# Altium integrated library National Semiconductor Interface.IntLib: 1433 symbols (part 28 of 51)
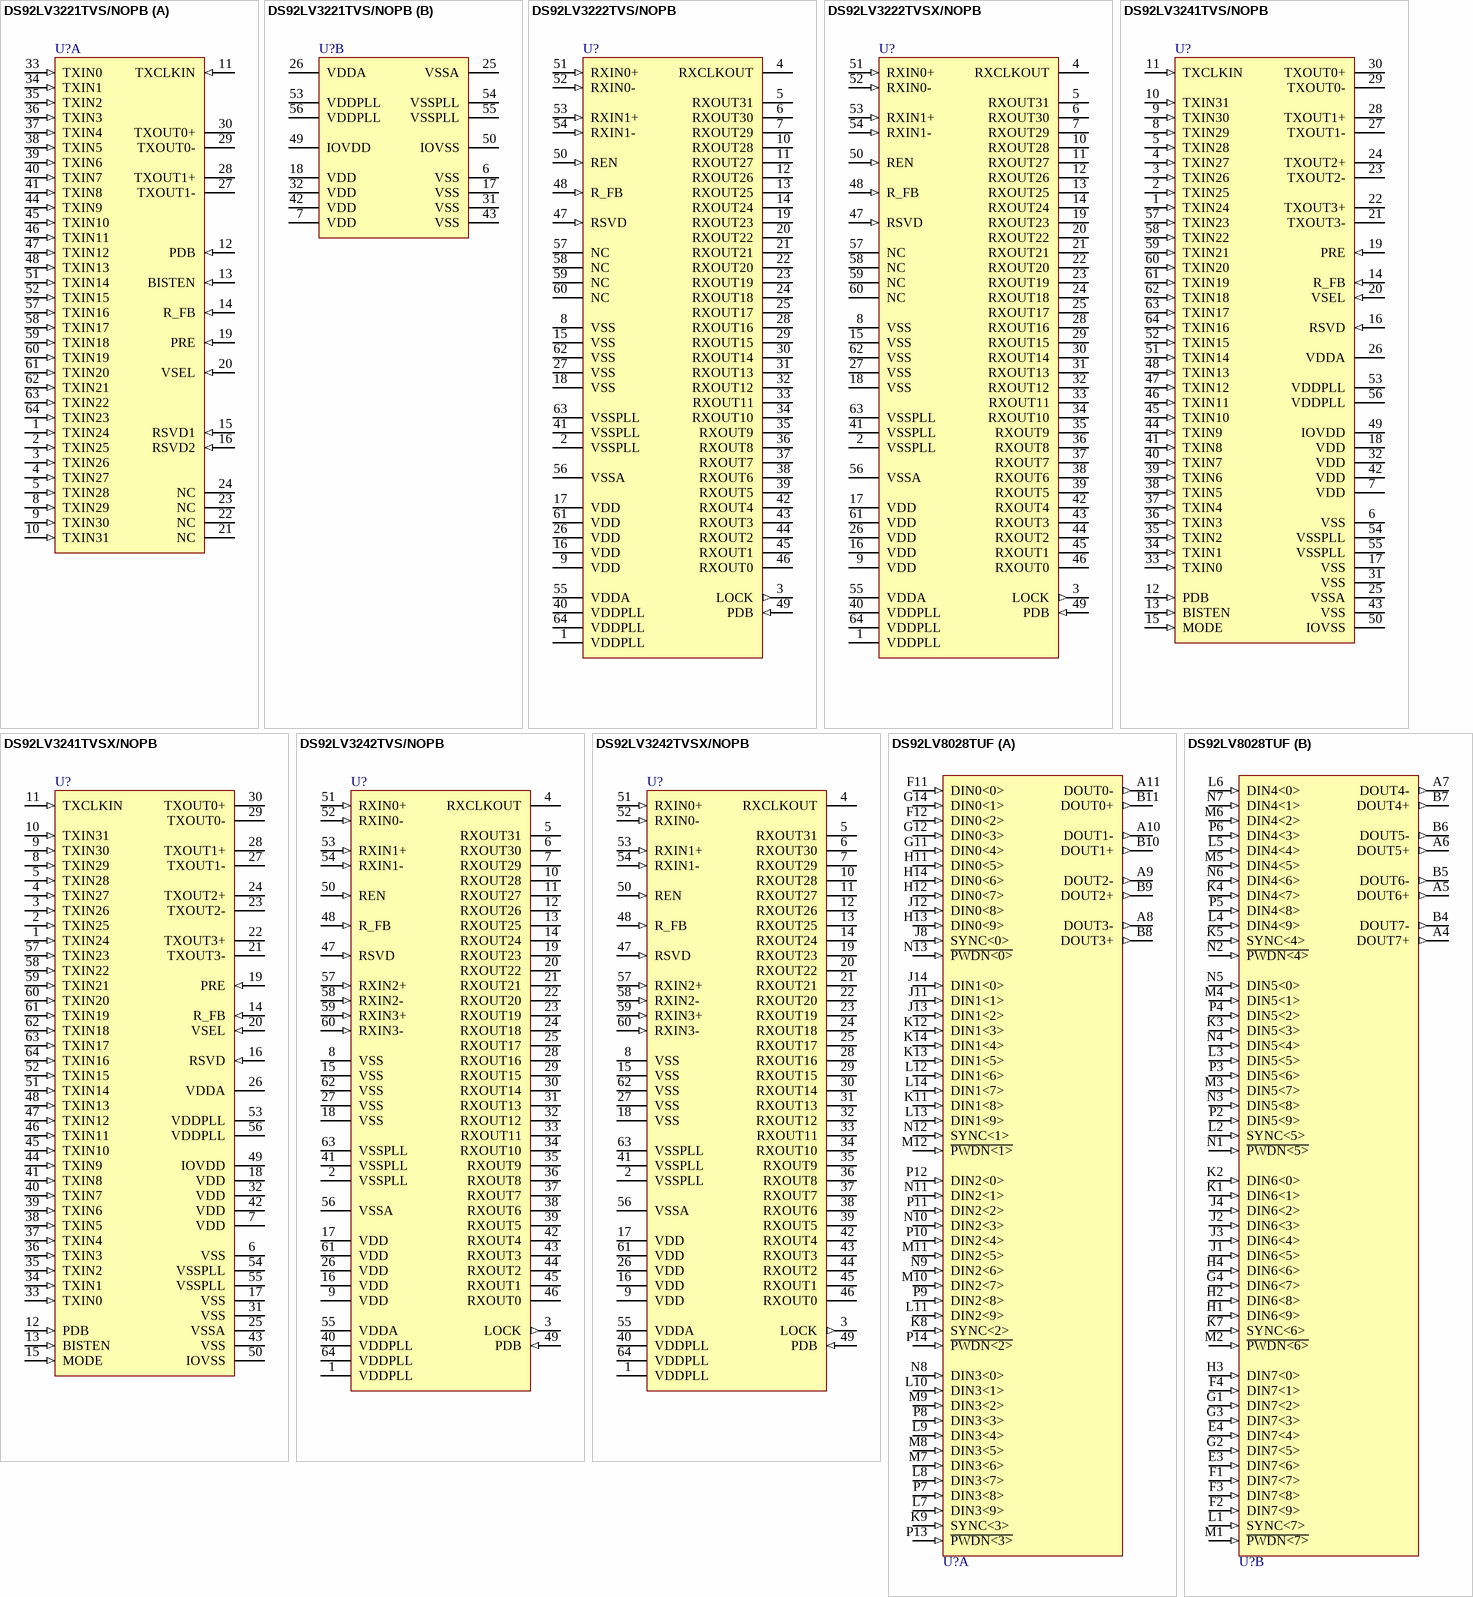
[diagram p151: symbols DS92LV3221TVS/NOPB to DS92LV8028TUF]

## DS92LV3222TVS/NOPB
designator U?
20-50 MHz 32-Bit Channel Link II Deserializer, 64-pin TQFP, Pb-Free; PartNumber: DS92LV3222TVS/NOPB; Manufacturer: National Semiconductor; PackageTopMarking: NSUZXYYTTE#*DS92LV3222*TVS; PowerWise: N; CompType: Interface IC; High-Reliability: Y; DatasheetVersion: Jan-2010; PackageVersion: revB, Jul-2003; PackageReference: VEC64A; PackageDescription: TQFP, Jedec Metric, 10 x 10 x 1.0mm, 64 Lead, 0.5mm Pitch; RoHS: Y; PinCount: 64; Code_JEDEC: MS-026-ACD; ComponentLink1Description: Manufacturer URL; ComponentLink1URL: http://www.national.com/; ComponentLink2Description: DS92LV3222 Datasheet; ComponentLink2URL: http://www.national.com/ds/DS/DS92LV3222.pdf; ComponentLink3Description: DS92LV3222 Web Page; ComponentLink3URL: http://www.national.com/pf/DS/DS92LV3222.html; ComponentLink4Description: VEC64A Package Page; ComponentLink4URL: http://www.national.com/packaging/folders/vec64a.html
footprint VEC64A_N (Thin QFP, 64-Leads, Body 10x10mm, Pitch 0.5mm, IPC Medium Density)
footprint VEC64A_L (Thin QFP, 64-Leads, Body 10x10mm, Pitch 0.5mm, IPC High Density)
footprint VEC64A_M (Thin QFP, 64-Leads, Body 10x10mm, Pitch 0.5mm, IPC Low Density)
pins: 1 VDDPLL (power), 2 VSSPLL (power), 3 LOCK (out), 4 RXCLKOUT (hiz), 5 RXOUT31 (hiz), 6 RXOUT30 (hiz), 7 RXOUT29 (hiz), 8 VSS (power), 9 VDD (power), 10 RXOUT28 (hiz), 11 RXOUT27 (hiz), 12 RXOUT26 (hiz), 13 RXOUT25 (hiz), 14 RXOUT24 (hiz), 15 VSS (power), 16 VDD (power), 17 VDD (power), 18 VSS (power), 19 RXOUT23 (hiz), 20 RXOUT22 (hiz), 21 RXOUT21 (hiz), 22 RXOUT20 (hiz), 23 RXOUT19 (hiz), 24 RXOUT18 (hiz), 25 RXOUT17 (hiz), 26 VDD (power), 27 VSS (power), 28 RXOUT16 (hiz), 29 RXOUT15 (hiz), 30 RXOUT14 (hiz), 31 RXOUT13 (hiz), 32 RXOUT12 (hiz), 33 RXOUT11 (hiz), 34 RXOUT10 (hiz), 35 RXOUT9 (hiz), 36 RXOUT8 (hiz), 37 RXOUT7 (hiz), 38 RXOUT6 (hiz), 39 RXOUT5 (hiz), 40 VDDPLL (power), 41 VSSPLL (power), 42 RXOUT4 (hiz), 43 RXOUT3 (hiz), 44 RXOUT2 (hiz), 45 RXOUT1 (hiz), 46 RXOUT0 (hiz), 47 RSVD (in), 48 R_FB (in), 49 PDB (in), 50 REN (in), 51 RXIN0+ (in), 52 RXIN0- (in), 53 RXIN1+ (in), 54 RXIN1- (in), 55 VDDA (power), 56 VSSA (power), 57 NC, 58 NC, 59 NC, 60 NC, 61 VDD (power), 62 VSS (power), 63 VSSPLL (power), 64 VDDPLL (power)

## DS92LV3222TVSX/NOPB
designator U?
20-50 MHz 32-Bit Channel Link II Deserializer, 64-pin TQFP, Pb-Free; PartNumber: DS92LV3222TVSX/NOPB; Manufacturer: National Semiconductor; PackageTopMarking: NSUZXYYTTE#*DS92LV3222*TVS; PowerWise: N; CompType: Interface IC; High-Reliability: Y; DatasheetVersion: Jan-2010; PackageVersion: revB, Jul-2003; PackageReference: VEC64A; PackageDescription: TQFP, Jedec Metric, 10 x 10 x 1.0mm, 64 Lead, 0.5mm Pitch; RoHS: Y; PinCount: 64; Code_JEDEC: MS-026-ACD; ComponentLink1Description: Manufacturer URL; ComponentLink1URL: http://www.national.com/; ComponentLink2Description: DS92LV3222 Datasheet; ComponentLink2URL: http://www.national.com/ds/DS/DS92LV3222.pdf; ComponentLink3Description: DS92LV3222 Web Page; ComponentLink3URL: http://www.national.com/pf/DS/DS92LV3222.html; ComponentLink4Description: VEC64A Package Page; ComponentLink4URL: http://www.national.com/packaging/folders/vec64a.html
footprint VEC64A_N (Thin QFP, 64-Leads, Body 10x10mm, Pitch 0.5mm, IPC Medium Density)
footprint VEC64A_L (Thin QFP, 64-Leads, Body 10x10mm, Pitch 0.5mm, IPC High Density)
footprint VEC64A_M (Thin QFP, 64-Leads, Body 10x10mm, Pitch 0.5mm, IPC Low Density)
pins: 1 VDDPLL (power), 2 VSSPLL (power), 3 LOCK (out), 4 RXCLKOUT (hiz), 5 RXOUT31 (hiz), 6 RXOUT30 (hiz), 7 RXOUT29 (hiz), 8 VSS (power), 9 VDD (power), 10 RXOUT28 (hiz), 11 RXOUT27 (hiz), 12 RXOUT26 (hiz), 13 RXOUT25 (hiz), 14 RXOUT24 (hiz), 15 VSS (power), 16 VDD (power), 17 VDD (power), 18 VSS (power), 19 RXOUT23 (hiz), 20 RXOUT22 (hiz), 21 RXOUT21 (hiz), 22 RXOUT20 (hiz), 23 RXOUT19 (hiz), 24 RXOUT18 (hiz), 25 RXOUT17 (hiz), 26 VDD (power), 27 VSS (power), 28 RXOUT16 (hiz), 29 RXOUT15 (hiz), 30 RXOUT14 (hiz), 31 RXOUT13 (hiz), 32 RXOUT12 (hiz), 33 RXOUT11 (hiz), 34 RXOUT10 (hiz), 35 RXOUT9 (hiz), 36 RXOUT8 (hiz), 37 RXOUT7 (hiz), 38 RXOUT6 (hiz), 39 RXOUT5 (hiz), 40 VDDPLL (power), 41 VSSPLL (power), 42 RXOUT4 (hiz), 43 RXOUT3 (hiz), 44 RXOUT2 (hiz), 45 RXOUT1 (hiz), 46 RXOUT0 (hiz), 47 RSVD (in), 48 R_FB (in), 49 PDB (in), 50 REN (in), 51 RXIN0+ (in), 52 RXIN0- (in), 53 RXIN1+ (in), 54 RXIN1- (in), 55 VDDA (power), 56 VSSA (power), 57 NC, 58 NC, 59 NC, 60 NC, 61 VDD (power), 62 VSS (power), 63 VSSPLL (power), 64 VDDPLL (power)

## DS92LV3241TVS/NOPB
designator U?
20-85 MHz 32-Bit Channel Link II Serializer, 64-pin TQFP, Pb-Free; PartNumber: DS92LV3241TVS/NOPB; Manufacturer: National Semiconductor; PackageTopMarking: NSUZXYYTTE#*DS92LV3241*TVS; PowerWise: N; CompType: Interface IC; High-Reliability: Y; DatasheetVersion: Sep-2009; PackageVersion: revB, Jul-2003; PackageReference: VEC64A; PackageDescription: TQFP, Jedec Metric, 10 x 10 x 1.0mm, 64 Lead, 0.5mm Pitch; RoHS: Y; PinCount: 64; Code_JEDEC: MS-026-ACD; ComponentLink1Description: Manufacturer URL; ComponentLink1URL: http://www.national.com/; ComponentLink2Description: DS92LV3241 Datasheet; ComponentLink2URL: http://www.national.com/ds/DS/DS92LV3241.pdf; ComponentLink3Description: DS92LV3241 Web Page; ComponentLink3URL: http://www.national.com/pf/DS/DS92LV3241.html; ComponentLink4Description: VEC64A Package Page; ComponentLink4URL: http://www.national.com/packaging/folders/vec64a.html
footprint VEC64A_N (Thin QFP, 64-Leads, Body 10x10mm, Pitch 0.5mm, IPC Medium Density)
footprint VEC64A_L (Thin QFP, 64-Leads, Body 10x10mm, Pitch 0.5mm, IPC High Density)
footprint VEC64A_M (Thin QFP, 64-Leads, Body 10x10mm, Pitch 0.5mm, IPC Low Density)
pins: 1 TXIN24 (in), 2 TXIN25 (in), 3 TXIN26 (in), 4 TXIN27 (in), 5 TXIN28 (in), 6 VSS (power), 7 VDD (power), 8 TXIN29 (in), 9 TXIN30 (in), 10 TXIN31 (in), 11 TXCLKIN (in), 12 PDB (in), 13 BISTEN (in), 14 R_FB (in), 15 MODE (in), 16 RSVD (in), 17 VSS (power), 18 VDD (power), 19 PRE (in), 20 VSEL (in), 21 TXOUT3- (hiz), 22 TXOUT3+ (hiz), 23 TXOUT2- (hiz), 24 TXOUT2+ (hiz), 25 VSSA (power), 26 VDDA (power), 27 TXOUT1- (hiz), 28 TXOUT1+ (hiz), 29 TXOUT0- (hiz), 30 TXOUT0+ (hiz), 31 VSS (power), 32 VDD (power), 33 TXIN0 (in), 34 TXIN1 (in), 35 TXIN2 (in), 36 TXIN3 (in), 37 TXIN4 (in), 38 TXIN5 (in), 39 TXIN6 (in), 40 TXIN7 (in), 41 TXIN8 (in), 42 VDD (power), 43 VSS (power), 44 TXIN9 (in), 45 TXIN10 (in), 46 TXIN11 (in), 47 TXIN12 (in), 48 TXIN13 (in), 49 IOVDD (power), 50 IOVSS (power), 51 TXIN14 (in), 52 TXIN15 (in), 53 VDDPLL (power), 54 VSSPLL (power), 55 VSSPLL (power), 56 VDDPLL (power), 57 TXIN23 (in), 58 TXIN22 (in), 59 TXIN21 (in), 60 TXIN20 (in), 61 TXIN19 (in), 62 TXIN18 (in), 63 TXIN17 (in), 64 TXIN16 (in)

## DS92LV3241TVSX/NOPB
designator U?
20-85 MHz 32-Bit Channel Link II Serializer, 64-pin TQFP, Pb-Free; PartNumber: DS92LV3241TVSX/NOPB; Manufacturer: National Semiconductor; PackageTopMarking: NSUZXYYTTE#*DS92LV3241*TVS; PowerWise: N; CompType: Interface IC; High-Reliability: Y; DatasheetVersion: Sep-2009; PackageVersion: revB, Jul-2003; PackageReference: VEC64A; PackageDescription: TQFP, Jedec Metric, 10 x 10 x 1.0mm, 64 Lead, 0.5mm Pitch; RoHS: Y; PinCount: 64; Code_JEDEC: MS-026-ACD; ComponentLink1Description: Manufacturer URL; ComponentLink1URL: http://www.national.com/; ComponentLink2Description: DS92LV3241 Datasheet; ComponentLink2URL: http://www.national.com/ds/DS/DS92LV3241.pdf; ComponentLink3Description: DS92LV3241 Web Page; ComponentLink3URL: http://www.national.com/pf/DS/DS92LV3241.html; ComponentLink4Description: VEC64A Package Page; ComponentLink4URL: http://www.national.com/packaging/folders/vec64a.html
footprint VEC64A_N (Thin QFP, 64-Leads, Body 10x10mm, Pitch 0.5mm, IPC Medium Density)
footprint VEC64A_L (Thin QFP, 64-Leads, Body 10x10mm, Pitch 0.5mm, IPC High Density)
footprint VEC64A_M (Thin QFP, 64-Leads, Body 10x10mm, Pitch 0.5mm, IPC Low Density)
pins: 1 TXIN24 (in), 2 TXIN25 (in), 3 TXIN26 (in), 4 TXIN27 (in), 5 TXIN28 (in), 6 VSS (power), 7 VDD (power), 8 TXIN29 (in), 9 TXIN30 (in), 10 TXIN31 (in), 11 TXCLKIN (in), 12 PDB (in), 13 BISTEN (in), 14 R_FB (in), 15 MODE (in), 16 RSVD (in), 17 VSS (power), 18 VDD (power), 19 PRE (in), 20 VSEL (in), 21 TXOUT3- (hiz), 22 TXOUT3+ (hiz), 23 TXOUT2- (hiz), 24 TXOUT2+ (hiz), 25 VSSA (power), 26 VDDA (power), 27 TXOUT1- (hiz), 28 TXOUT1+ (hiz), 29 TXOUT0- (hiz), 30 TXOUT0+ (hiz), 31 VSS (power), 32 VDD (power), 33 TXIN0 (in), 34 TXIN1 (in), 35 TXIN2 (in), 36 TXIN3 (in), 37 TXIN4 (in), 38 TXIN5 (in), 39 TXIN6 (in), 40 TXIN7 (in), 41 TXIN8 (in), 42 VDD (power), 43 VSS (power), 44 TXIN9 (in), 45 TXIN10 (in), 46 TXIN11 (in), 47 TXIN12 (in), 48 TXIN13 (in), 49 IOVDD (power), 50 IOVSS (power), 51 TXIN14 (in), 52 TXIN15 (in), 53 VDDPLL (power), 54 VSSPLL (power), 55 VSSPLL (power), 56 VDDPLL (power), 57 TXIN23 (in), 58 TXIN22 (in), 59 TXIN21 (in), 60 TXIN20 (in), 61 TXIN19 (in), 62 TXIN18 (in), 63 TXIN17 (in), 64 TXIN16 (in)

## DS92LV3242TVS/NOPB
designator U?
20-85 MHz 32-Bit Channel Link II Deserializer, 64-pin TQFP, Pb-Free; PartNumber: DS92LV3242TVS/NOPB; Manufacturer: National Semiconductor; PackageTopMarking: NSUZXYYTTE#*DS92LV3242*TVS; PowerWise: N; CompType: Interface IC; High-Reliability: Y; DatasheetVersion: Sep-2009; PackageVersion: revB, Jul-2003; PackageReference: VEC64A; PackageDescription: TQFP, Jedec Metric, 10 x 10 x 1.0mm, 64 Lead, 0.5mm Pitch; RoHS: Y; PinCount: 64; Code_JEDEC: MS-026-ACD; ComponentLink1Description: Manufacturer URL; ComponentLink1URL: http://www.national.com/; ComponentLink2Description: DS92LV3242 Datasheet; ComponentLink2URL: http://www.national.com/ds/DS/DS92LV3242.pdf; ComponentLink3Description: DS92LV3242 Web Page; ComponentLink3URL: http://www.national.com/pf/DS/DS92LV3242.html; ComponentLink4Description: VEC64A Package Page; ComponentLink4URL: http://www.national.com/packaging/folders/vec64a.html
footprint VEC64A_N (Thin QFP, 64-Leads, Body 10x10mm, Pitch 0.5mm, IPC Medium Density)
footprint VEC64A_L (Thin QFP, 64-Leads, Body 10x10mm, Pitch 0.5mm, IPC High Density)
footprint VEC64A_M (Thin QFP, 64-Leads, Body 10x10mm, Pitch 0.5mm, IPC Low Density)
pins: 1 VDDPLL (power), 2 VSSPLL (power), 3 LOCK (out), 4 RXCLKOUT (hiz), 5 RXOUT31 (hiz), 6 RXOUT30 (hiz), 7 RXOUT29 (hiz), 8 VSS (power), 9 VDD (power), 10 RXOUT28 (hiz), 11 RXOUT27 (hiz), 12 RXOUT26 (hiz), 13 RXOUT25 (hiz), 14 RXOUT24 (hiz), 15 VSS (power), 16 VDD (power), 17 VDD (power), 18 VSS (power), 19 RXOUT23 (hiz), 20 RXOUT22 (hiz), 21 RXOUT21 (hiz), 22 RXOUT20 (hiz), 23 RXOUT19 (hiz), 24 RXOUT18 (hiz), 25 RXOUT17 (hiz), 26 VDD (power), 27 VSS (power), 28 RXOUT16 (hiz), 29 RXOUT15 (hiz), 30 RXOUT14 (hiz), 31 RXOUT13 (hiz), 32 RXOUT12 (hiz), 33 RXOUT11 (hiz), 34 RXOUT10 (hiz), 35 RXOUT9 (hiz), 36 RXOUT8 (hiz), 37 RXOUT7 (hiz), 38 RXOUT6 (hiz), 39 RXOUT5 (hiz), 40 VDDPLL (power), 41 VSSPLL (power), 42 RXOUT4 (hiz), 43 RXOUT3 (hiz), 44 RXOUT2 (hiz), 45 RXOUT1 (hiz), 46 RXOUT0 (hiz), 47 RSVD (in), 48 R_FB (in), 49 PDB (in), 50 REN (in), 51 RXIN0+ (in), 52 RXIN0- (in), 53 RXIN1+ (in), 54 RXIN1- (in), 55 VDDA (power), 56 VSSA (power), 57 RXIN2+ (in), 58 RXIN2- (in), 59 RXIN3+ (in), 60 RXIN3- (in), 61 VDD (power), 62 VSS (power), 63 VSSPLL (power), 64 VDDPLL (power)

## DS92LV3242TVSX/NOPB
designator U?
20-85 MHz 32-Bit Channel Link II Deserializer, 64-pin TQFP, Pb-Free; PartNumber: DS92LV3242TVSX/NOPB; Manufacturer: National Semiconductor; PackageTopMarking: NSUZXYYTTE#*DS92LV3242*TVS; PowerWise: N; CompType: Interface IC; High-Reliability: Y; DatasheetVersion: Sep-2009; PackageVersion: revB, Jul-2003; PackageReference: VEC64A; PackageDescription: TQFP, Jedec Metric, 10 x 10 x 1.0mm, 64 Lead, 0.5mm Pitch; RoHS: Y; PinCount: 64; Code_JEDEC: MS-026-ACD; ComponentLink1Description: Manufacturer URL; ComponentLink1URL: http://www.national.com/; ComponentLink2Description: DS92LV3242 Datasheet; ComponentLink2URL: http://www.national.com/ds/DS/DS92LV3242.pdf; ComponentLink3Description: DS92LV3242 Web Page; ComponentLink3URL: http://www.national.com/pf/DS/DS92LV3242.html; ComponentLink4Description: VEC64A Package Page; ComponentLink4URL: http://www.national.com/packaging/folders/vec64a.html
footprint VEC64A_N (Thin QFP, 64-Leads, Body 10x10mm, Pitch 0.5mm, IPC Medium Density)
footprint VEC64A_L (Thin QFP, 64-Leads, Body 10x10mm, Pitch 0.5mm, IPC High Density)
footprint VEC64A_M (Thin QFP, 64-Leads, Body 10x10mm, Pitch 0.5mm, IPC Low Density)
pins: 1 VDDPLL (power), 2 VSSPLL (power), 3 LOCK (out), 4 RXCLKOUT (hiz), 5 RXOUT31 (hiz), 6 RXOUT30 (hiz), 7 RXOUT29 (hiz), 8 VSS (power), 9 VDD (power), 10 RXOUT28 (hiz), 11 RXOUT27 (hiz), 12 RXOUT26 (hiz), 13 RXOUT25 (hiz), 14 RXOUT24 (hiz), 15 VSS (power), 16 VDD (power), 17 VDD (power), 18 VSS (power), 19 RXOUT23 (hiz), 20 RXOUT22 (hiz), 21 RXOUT21 (hiz), 22 RXOUT20 (hiz), 23 RXOUT19 (hiz), 24 RXOUT18 (hiz), 25 RXOUT17 (hiz), 26 VDD (power), 27 VSS (power), 28 RXOUT16 (hiz), 29 RXOUT15 (hiz), 30 RXOUT14 (hiz), 31 RXOUT13 (hiz), 32 RXOUT12 (hiz), 33 RXOUT11 (hiz), 34 RXOUT10 (hiz), 35 RXOUT9 (hiz), 36 RXOUT8 (hiz), 37 RXOUT7 (hiz), 38 RXOUT6 (hiz), 39 RXOUT5 (hiz), 40 VDDPLL (power), 41 VSSPLL (power), 42 RXOUT4 (hiz), 43 RXOUT3 (hiz), 44 RXOUT2 (hiz), 45 RXOUT1 (hiz), 46 RXOUT0 (hiz), 47 RSVD (in), 48 R_FB (in), 49 PDB (in), 50 REN (in), 51 RXIN0+ (in), 52 RXIN0- (in), 53 RXIN1+ (in), 54 RXIN1- (in), 55 VDDA (power), 56 VSSA (power), 57 RXIN2+ (in), 58 RXIN2- (in), 59 RXIN3+ (in), 60 RXIN3- (in), 61 VDD (power), 62 VSS (power), 63 VSSPLL (power), 64 VDDPLL (power)

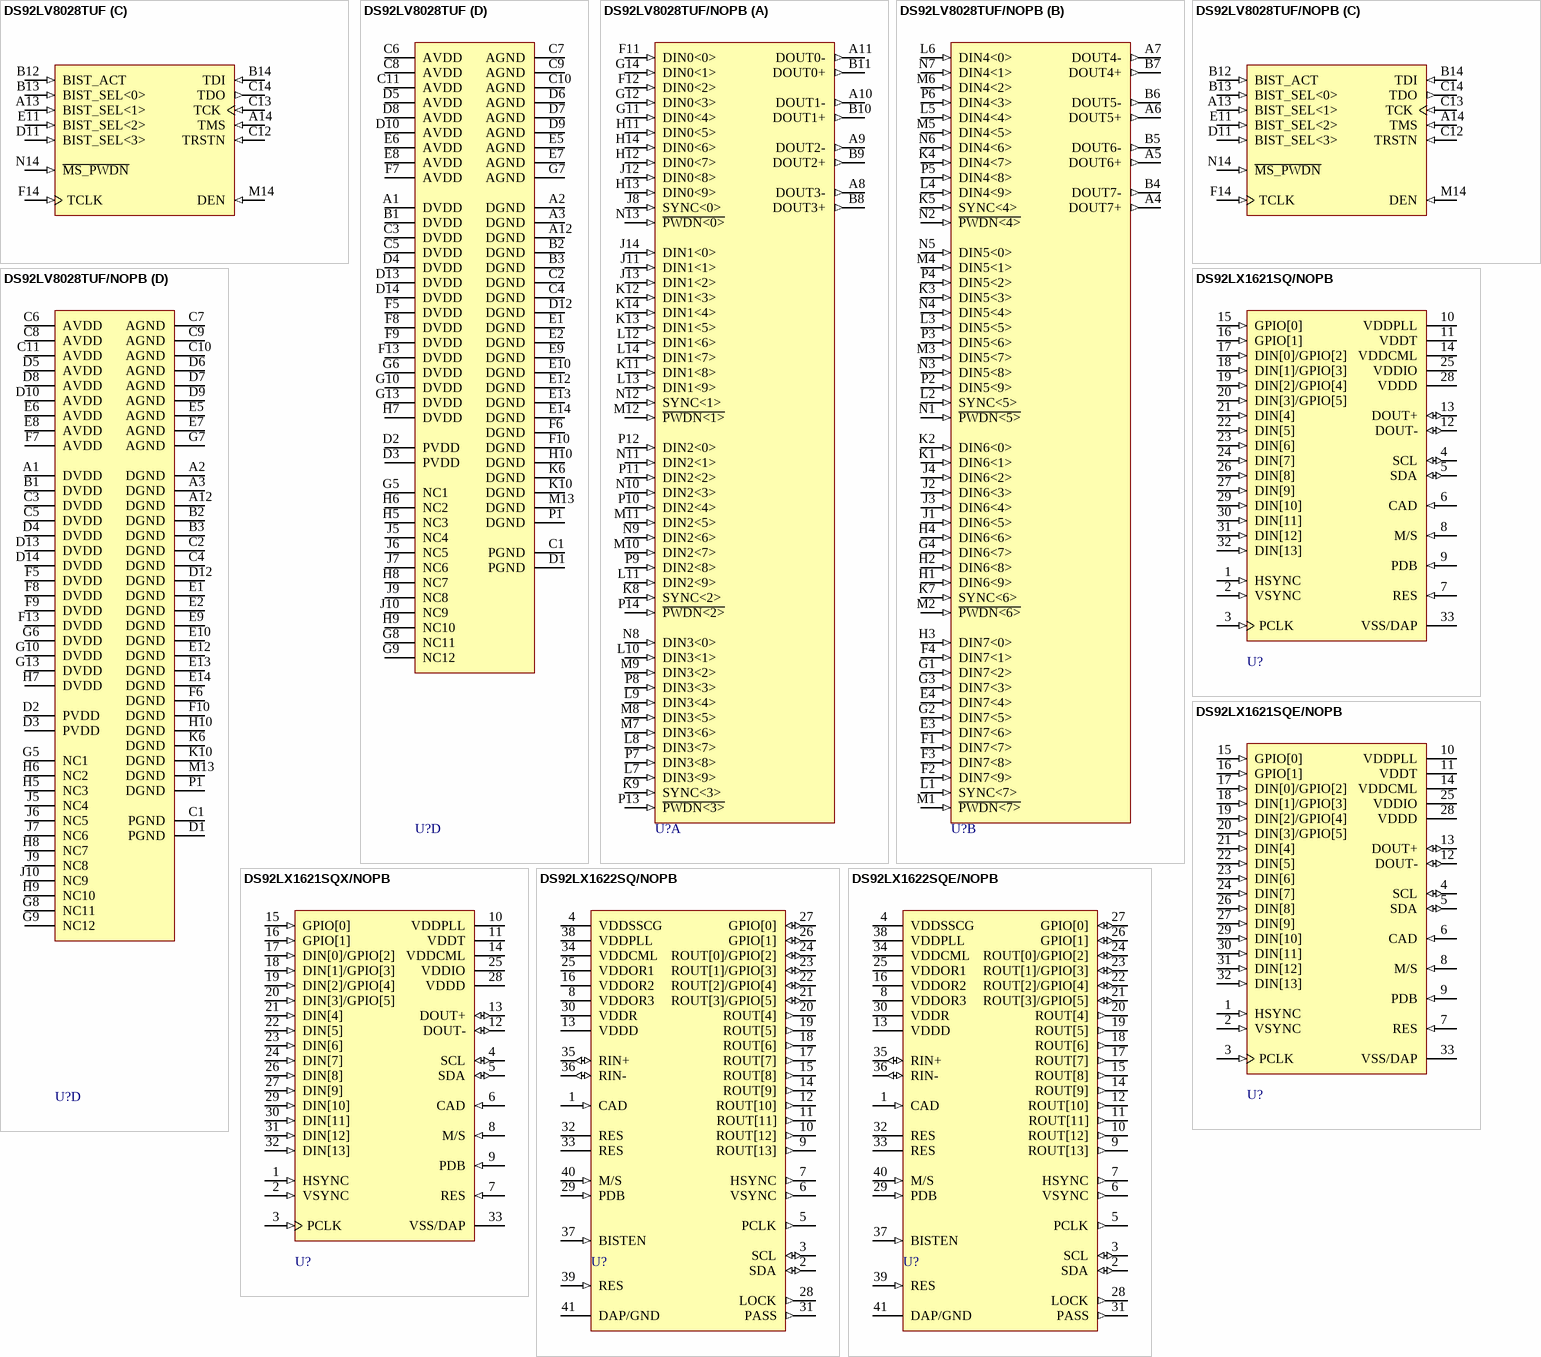
[diagram p74: symbols DS92LV8028TUF to DS92LX1622SQE/NOPB]

## DS92LV8028TUF
designator U?
8 Channel 10:1 Serializer, 196-pin LBGA; PartNumber: DS92LV8028TUF; Manufacturer: National Semiconductor; PackageTopMarking: NSUZXYYTTE#*DS92LV8028T*UF*BBBBB; PowerWise: N; CompType: Interface IC; High-Reliability: Y; DatasheetVersion: Aug-2003; PackageVersion: revC, Jul-2005; PackageReference: UJB196A; PackageDescription: LBGA, 15 x 15 x 1.37mm, 196 Ball, 1.0mm Pitch; RoHS: N; PinCount: 196; Code_JEDEC: MO-192-AAE-1; ComponentLink1Description: Manufacturer URL; ComponentLink1URL: http://www.national.com/; ComponentLink2Description: DS92LV8028 Datasheet; ComponentLink2URL: http://www.national.com/ds/DS/DS92LV8028.pdf; ComponentLink3Description: DS92LV8028 Web Page; ComponentLink3URL: http://www.national.com/pf/DS/DS92LV8028.html; ComponentLink4Description: UJB196A Package Page; ComponentLink4URL: http://www.national.com/packaging/folders/ujb196a.html
footprint UJB196A (BGA, 196-Leads, Body 15x15mm, Pitch 1mm)
part A pins: A8 DOUT3- (out), A9 DOUT2- (out), A10 DOUT1- (out), A11 DOUT0- (out), B8 DOUT3+ (out), B9 DOUT2+ (out), B10 DOUT1+ (out), B11 DOUT0+ (out), F11 DIN0<0> (in), F12 DIN0<2> (in), G11 DIN0<4> (in), G12 DIN0<3> (in), G14 DIN0<1> (in), H11 DIN0<5> (in), H12 DIN0<7> (in), H13 DIN0<9> (in), H14 DIN0<6> (in), J8 SYNC<0> (in), J11 DIN1<1> (in), J12 DIN0<8> (in), J13 DIN1<2> (in), J14 DIN1<0> (in), K8 SYNC<2> (in), K9 SYNC<3> (in), K11 DIN1<8> (in), K12 DIN1<3> (in), K13 DIN1<5> (in), K14 DIN1<4> (in), L7 DIN3<9> (in), L8 DIN3<7> (in), L9 DIN3<4> (in), L10 DIN3<1> (in), L11 DIN2<9> (in), L12 DIN1<6> (in), L13 DIN1<9> (in), L14 DIN1<7> (in), M7 DIN3<6> (in), M8 DIN3<5> (in), M9 DIN3<2> (in), M10 DIN2<7> (in), M11 DIN2<5> (in), M12 ~{PWDN<1>} (in), N8 DIN3<0> (in), N9 DIN2<6> (in), N10 DIN2<3> (in), N11 DIN2<1> (in), N12 SYNC<1> (in), N13 ~{PWDN<0>} (in), P7 DIN3<8> (in), P8 DIN3<3> (in), P9 DIN2<8> (in), P10 DIN2<4> (in), P11 DIN2<2> (in), P12 DIN2<0> (in), P13 ~{PWDN<3>} (in), P14 ~{PWDN<2>} (in)
part B pins: A4 DOUT7+ (out), A5 DOUT6+ (out), A6 DOUT5+ (out), A7 DOUT4- (out), B4 DOUT7- (out), B5 DOUT6- (out), B6 DOUT5- (out), B7 DOUT4+ (out), E3 DIN7<6> (in), E4 DIN7<4> (in), F1 DIN7<7> (in), F2 DIN7<9> (in), F3 DIN7<8> (in), F4 DIN7<1> (in), G1 DIN7<2> (in), G2 DIN7<5> (in), G3 DIN7<3> (in), G4 DIN6<7> (in), H1 DIN6<9> (in), H2 DIN6<8> (in), H3 DIN7<0> (in), H4 DIN6<6> (in), J1 DIN6<5> (in), J2 DIN6<3> (in), J3 DIN6<4> (in), J4 DIN6<2> (in), K1 DIN6<1> (in), K2 DIN6<0> (in), K3 DIN5<3> (in), K4 DIN4<7> (in), K5 SYNC<4> (in), K7 SYNC<6> (in), L1 SYNC<7> (in), L2 SYNC<5> (in), L3 DIN5<5> (in), L4 DIN4<9> (in), L5 DIN4<4> (in), L6 DIN4<0> (in), M1 ~{PWDN<7>} (in), M2 ~{PWDN<6>} (in), M3 DIN5<7> (in), M4 DIN5<1> (in), M5 DIN4<5> (in), M6 DIN4<2> (in), N1 ~{PWDN<5>} (in), N2 ~{PWDN<4>} (in), N3 DIN5<8> (in), N4 DIN5<4> (in), N5 DIN5<0> (in), N6 DIN4<6> (in), N7 DIN4<1> (in), P2 DIN5<9> (in), P3 DIN5<6> (in), P4 DIN5<2> (in), P5 DIN4<8> (in), P6 DIN4<3> (in)
part C pins: A13 BIST_SEL<1> (in), A14 TMS (in), B12 BIST_ACT (in), B13 BIST_SEL<0> (in), B14 TDI (in), C12 TRSTN (in), C13 TCK (in), C14 TDO (out), D11 BIST_SEL<3> (in), E11 BIST_SEL<2> (in), F14 TCLK (in), M14 DEN (in), N14 ~{MS_PWDN} (in)
part D pins: A1 DVDD (power), A2 DGND (power), A3 DGND (power), A12 DGND (power), B1 DVDD (power), B2 DGND (power), B3 DGND (power), C1 PGND (power), C2 DGND (power), C3 DVDD (power), C4 DGND (power), C5 DVDD (power), C6 AVDD (power), C7 AGND (power), C8 AVDD (power), C9 AGND (power), C10 AGND (power), C11 AVDD (power), D1 PGND (power), D2 PVDD (power), D3 PVDD (power), D4 DVDD (power), D5 AVDD (power), D6 AGND (power), D7 AGND (power), D8 AVDD (power), D9 AGND (power), D10 AVDD (power), D12 DGND (power), D13 DVDD (power), D14 DVDD (power), E1 DGND (power), E2 DGND (power), E5 AGND (power), E6 AVDD (power), E7 AGND (power), E8 AVDD (power), E9 DGND (power), E10 DGND (power), E12 DGND (power), E13 DGND (power), E14 DGND (power), F5 DVDD (power), F6 DGND (power), F7 AVDD (power), F8 DVDD (power), F9 DVDD (power), F10 DGND (power), F13 DVDD (power), G5 NC1, G6 DVDD (power), G7 AGND (power), G8 NC11, G9 NC12, G10 DVDD (power), G13 DVDD (power), H5 NC3, H6 NC2, H7 DVDD (power), H8 NC7, H9 NC10, H10 DGND (power), J5 NC4, J6 NC5, J7 NC6, J9 NC8, J10 NC9, K6 DGND (power), K10 DGND (power), M13 DGND (power), P1 DGND (power)

## DS92LV8028TUF/NOPB
designator U?
8 Channel 10:1 Serializer, 196-pin LBGA, Pb-Free; PartNumber: DS92LV8028TUF/NOPB; Manufacturer: National Semiconductor; PackageTopMarking: NSUZXYYTTE#*DS92LV8028T*UF*BBBBB; PowerWise: N; CompType: Interface IC; High-Reliability: Y; DatasheetVersion: Aug-2003; PackageVersion: revC, Jul-2005; PackageReference: UJB196A; PackageDescription: LBGA, 15 x 15 x 1.37mm, 196 Ball, 1.0mm Pitch; RoHS: Y; PinCount: 196; Code_JEDEC: MO-192-AAE-1; ComponentLink1Description: Manufacturer URL; ComponentLink1URL: http://www.national.com/; ComponentLink2Description: DS92LV8028 Datasheet; ComponentLink2URL: http://www.national.com/ds/DS/DS92LV8028.pdf; ComponentLink3Description: DS92LV8028 Web Page; ComponentLink3URL: http://www.national.com/pf/DS/DS92LV8028.html; ComponentLink4Description: UJB196A Package Page; ComponentLink4URL: http://www.national.com/packaging/folders/ujb196a.html
footprint UJB196A (BGA, 196-Leads, Body 15x15mm, Pitch 1mm)
part A pins: A8 DOUT3- (out), A9 DOUT2- (out), A10 DOUT1- (out), A11 DOUT0- (out), B8 DOUT3+ (out), B9 DOUT2+ (out), B10 DOUT1+ (out), B11 DOUT0+ (out), F11 DIN0<0> (in), F12 DIN0<2> (in), G11 DIN0<4> (in), G12 DIN0<3> (in), G14 DIN0<1> (in), H11 DIN0<5> (in), H12 DIN0<7> (in), H13 DIN0<9> (in), H14 DIN0<6> (in), J8 SYNC<0> (in), J11 DIN1<1> (in), J12 DIN0<8> (in), J13 DIN1<2> (in), J14 DIN1<0> (in), K8 SYNC<2> (in), K9 SYNC<3> (in), K11 DIN1<8> (in), K12 DIN1<3> (in), K13 DIN1<5> (in), K14 DIN1<4> (in), L7 DIN3<9> (in), L8 DIN3<7> (in), L9 DIN3<4> (in), L10 DIN3<1> (in), L11 DIN2<9> (in), L12 DIN1<6> (in), L13 DIN1<9> (in), L14 DIN1<7> (in), M7 DIN3<6> (in), M8 DIN3<5> (in), M9 DIN3<2> (in), M10 DIN2<7> (in), M11 DIN2<5> (in), M12 ~{PWDN<1>} (in), N8 DIN3<0> (in), N9 DIN2<6> (in), N10 DIN2<3> (in), N11 DIN2<1> (in), N12 SYNC<1> (in), N13 ~{PWDN<0>} (in), P7 DIN3<8> (in), P8 DIN3<3> (in), P9 DIN2<8> (in), P10 DIN2<4> (in), P11 DIN2<2> (in), P12 DIN2<0> (in), P13 ~{PWDN<3>} (in), P14 ~{PWDN<2>} (in)
part B pins: A4 DOUT7+ (out), A5 DOUT6+ (out), A6 DOUT5+ (out), A7 DOUT4- (out), B4 DOUT7- (out), B5 DOUT6- (out), B6 DOUT5- (out), B7 DOUT4+ (out), E3 DIN7<6> (in), E4 DIN7<4> (in), F1 DIN7<7> (in), F2 DIN7<9> (in), F3 DIN7<8> (in), F4 DIN7<1> (in), G1 DIN7<2> (in), G2 DIN7<5> (in), G3 DIN7<3> (in), G4 DIN6<7> (in), H1 DIN6<9> (in), H2 DIN6<8> (in), H3 DIN7<0> (in), H4 DIN6<6> (in), J1 DIN6<5> (in), J2 DIN6<3> (in), J3 DIN6<4> (in), J4 DIN6<2> (in), K1 DIN6<1> (in), K2 DIN6<0> (in), K3 DIN5<3> (in), K4 DIN4<7> (in), K5 SYNC<4> (in), K7 SYNC<6> (in), L1 SYNC<7> (in), L2 SYNC<5> (in), L3 DIN5<5> (in), L4 DIN4<9> (in), L5 DIN4<4> (in), L6 DIN4<0> (in), M1 ~{PWDN<7>} (in), M2 ~{PWDN<6>} (in), M3 DIN5<7> (in), M4 DIN5<1> (in), M5 DIN4<5> (in), M6 DIN4<2> (in), N1 ~{PWDN<5>} (in), N2 ~{PWDN<4>} (in), N3 DIN5<8> (in), N4 DIN5<4> (in), N5 DIN5<0> (in), N6 DIN4<6> (in), N7 DIN4<1> (in), P2 DIN5<9> (in), P3 DIN5<6> (in), P4 DIN5<2> (in), P5 DIN4<8> (in), P6 DIN4<3> (in)
part C pins: A13 BIST_SEL<1> (in), A14 TMS (in), B12 BIST_ACT (in), B13 BIST_SEL<0> (in), B14 TDI (in), C12 TRSTN (in), C13 TCK (in), C14 TDO (out), D11 BIST_SEL<3> (in), E11 BIST_SEL<2> (in), F14 TCLK (in), M14 DEN (in), N14 ~{MS_PWDN} (in)
part D pins: A1 DVDD (power), A2 DGND (power), A3 DGND (power), A12 DGND (power), B1 DVDD (power), B2 DGND (power), B3 DGND (power), C1 PGND (power), C2 DGND (power), C3 DVDD (power), C4 DGND (power), C5 DVDD (power), C6 AVDD (power), C7 AGND (power), C8 AVDD (power), C9 AGND (power), C10 AGND (power), C11 AVDD (power), D1 PGND (power), D2 PVDD (power), D3 PVDD (power), D4 DVDD (power), D5 AVDD (power), D6 AGND (power), D7 AGND (power), D8 AVDD (power), D9 AGND (power), D10 AVDD (power), D12 DGND (power), D13 DVDD (power), D14 DVDD (power), E1 DGND (power), E2 DGND (power), E5 AGND (power), E6 AVDD (power), E7 AGND (power), E8 AVDD (power), E9 DGND (power), E10 DGND (power), E12 DGND (power), E13 DGND (power), E14 DGND (power), F5 DVDD (power), F6 DGND (power), F7 AVDD (power), F8 DVDD (power), F9 DVDD (power), F10 DGND (power), F13 DVDD (power), G5 NC1, G6 DVDD (power), G7 AGND (power), G8 NC11, G9 NC12, G10 DVDD (power), G13 DVDD (power), H5 NC3, H6 NC2, H7 DVDD (power), H8 NC7, H9 NC10, H10 DGND (power), J5 NC4, J6 NC5, J7 NC6, J9 NC8, J10 NC9, K6 DGND (power), K10 DGND (power), M13 DGND (power), P1 DGND (power)

## DS92LX1621SQ/NOPB
designator U?
10 - 50 MHz DC-Balanced Channel Link III Bi-Directional Control Serializer, 32 pin LLP; PartNumber: DS92LX1621SQ/NOPB; Manufacturer: National Semiconductor; PackageTopMarking: NS*UZXYTT*LX1621; PowerWise: N; CompType: Interface IC; High-Reliability: Y; DatasheetVersion: Sep-2010; PackageVersion: revB, Oct-2009; PackageReference: SQA32A; PackageDescription: LLP, Quad, 5 x 5 x 0.8mm, 32 Lead, 0.5mm Pitch, No Pullback 3.1 x 3.1 Exposed Pad; RoHS: Y; PinCount: 32; ComponentLink1Description: Manufacturer URL; ComponentLink1URL: http://www.national.com/; ComponentLink2Description: DS92LX1621 Datasheet; ComponentLink2URL: http://www.national.com/ds/DS/DS92LX1621.pdf; ComponentLink3Description: DS92LX1621 Web Page; ComponentLink3URL: http://www.national.com/pf/DS/DS92LX1621.html; ComponentLink4Description: SQA32A Package Page; ComponentLink4URL: http://www.national.com/packaging/folders/sqa32a.html
footprint SQA32A (QFN, 32-Leads, Body 5x5mm, Pitch 0.5mm, Thermal Pad 3.2x3.2mm, NSC Recommended)
pins: 1 HSYNC (in), 2 VSYNC (in), 3 PCLK (in), 4 SCL (io), 5 SDA (io), 6 CAD (in), 7 RES (in), 8 M/S (in), 9 PDB (in), 10 VDDPLL (power), 11 VDDT (power), 12 DOUT- (io), 13 DOUT+ (io), 14 VDDCML (power), 15 GPIO[0] (in), 16 GPIO[1] (in), 17 DIN[0]/GPIO[2] (in), 18 DIN[1]/GPIO[3] (in), 19 DIN[2]/GPIO[4] (in), 20 DIN[3]/GPIO[5] (in), 21 DIN[4] (in), 22 DIN[5] (in), 23 DIN[6] (in), 24 DIN[7] (in), 25 VDDIO (power), 26 DIN[8] (in), 27 DIN[9] (in), 28 VDDD (power), 29 DIN[10] (in), 30 DIN[11] (in), 31 DIN[12] (in), 32 DIN[13] (in), 33 VSS/DAP (power)

## DS92LX1621SQE/NOPB
designator U?
10 - 50 MHz DC-Balanced Channel Link III Bi-Directional Control Serializer, 32 pin LLP; PartNumber: DS92LX1621SQE/NOPB; Manufacturer: National Semiconductor; PackageTopMarking: NS*UZXYTT*LX1621; PowerWise: N; CompType: Interface IC; High-Reliability: Y; DatasheetVersion: Sep-2010; PackageVersion: revB, Oct-2009; PackageReference: SQA32A; PackageDescription: LLP, Quad, 5 x 5 x 0.8mm, 32 Lead, 0.5mm Pitch, No Pullback 3.1 x 3.1 Exposed Pad; RoHS: Y; PinCount: 32; ComponentLink1Description: Manufacturer URL; ComponentLink1URL: http://www.national.com/; ComponentLink2Description: DS92LX1621 Datasheet; ComponentLink2URL: http://www.national.com/ds/DS/DS92LX1621.pdf; ComponentLink3Description: DS92LX1621 Web Page; ComponentLink3URL: http://www.national.com/pf/DS/DS92LX1621.html; ComponentLink4Description: SQA32A Package Page; ComponentLink4URL: http://www.national.com/packaging/folders/sqa32a.html
footprint SQA32A (QFN, 32-Leads, Body 5x5mm, Pitch 0.5mm, Thermal Pad 3.2x3.2mm, NSC Recommended)
pins: 1 HSYNC (in), 2 VSYNC (in), 3 PCLK (in), 4 SCL (io), 5 SDA (io), 6 CAD (in), 7 RES (in), 8 M/S (in), 9 PDB (in), 10 VDDPLL (power), 11 VDDT (power), 12 DOUT- (io), 13 DOUT+ (io), 14 VDDCML (power), 15 GPIO[0] (in), 16 GPIO[1] (in), 17 DIN[0]/GPIO[2] (in), 18 DIN[1]/GPIO[3] (in), 19 DIN[2]/GPIO[4] (in), 20 DIN[3]/GPIO[5] (in), 21 DIN[4] (in), 22 DIN[5] (in), 23 DIN[6] (in), 24 DIN[7] (in), 25 VDDIO (power), 26 DIN[8] (in), 27 DIN[9] (in), 28 VDDD (power), 29 DIN[10] (in), 30 DIN[11] (in), 31 DIN[12] (in), 32 DIN[13] (in), 33 VSS/DAP (power)

## DS92LX1621SQX/NOPB
designator U?
10 - 50 MHz DC-Balanced Channel Link III Bi-Directional Control Serializer, 32 pin LLP; PartNumber: DS92LX1621SQX/NOPB; Manufacturer: National Semiconductor; PackageTopMarking: NS*UZXYTT*LX1621; PowerWise: N; CompType: Interface IC; High-Reliability: Y; DatasheetVersion: Sep-2010; PackageVersion: revB, Oct-2009; PackageReference: SQA32A; PackageDescription: LLP, Quad, 5 x 5 x 0.8mm, 32 Lead, 0.5mm Pitch, No Pullback 3.1 x 3.1 Exposed Pad; RoHS: Y; PinCount: 32; ComponentLink1Description: Manufacturer URL; ComponentLink1URL: http://www.national.com/; ComponentLink2Description: DS92LX1621 Datasheet; ComponentLink2URL: http://www.national.com/ds/DS/DS92LX1621.pdf; ComponentLink3Description: DS92LX1621 Web Page; ComponentLink3URL: http://www.national.com/pf/DS/DS92LX1621.html; ComponentLink4Description: SQA32A Package Page; ComponentLink4URL: http://www.national.com/packaging/folders/sqa32a.html
footprint SQA32A (QFN, 32-Leads, Body 5x5mm, Pitch 0.5mm, Thermal Pad 3.2x3.2mm, NSC Recommended)
pins: 1 HSYNC (in), 2 VSYNC (in), 3 PCLK (in), 4 SCL (io), 5 SDA (io), 6 CAD (in), 7 RES (in), 8 M/S (in), 9 PDB (in), 10 VDDPLL (power), 11 VDDT (power), 12 DOUT- (io), 13 DOUT+ (io), 14 VDDCML (power), 15 GPIO[0] (in), 16 GPIO[1] (in), 17 DIN[0]/GPIO[2] (in), 18 DIN[1]/GPIO[3] (in), 19 DIN[2]/GPIO[4] (in), 20 DIN[3]/GPIO[5] (in), 21 DIN[4] (in), 22 DIN[5] (in), 23 DIN[6] (in), 24 DIN[7] (in), 25 VDDIO (power), 26 DIN[8] (in), 27 DIN[9] (in), 28 VDDD (power), 29 DIN[10] (in), 30 DIN[11] (in), 31 DIN[12] (in), 32 DIN[13] (in), 33 VSS/DAP (power)

## DS92LX1622SQ/NOPB
designator U?
10 - 50 MHz DC-Balanced Channel Link III Bi-Directional Control Serializer, 40 pin LLP; PartNumber: DS92LX1622SQ/NOPB; Manufacturer: National Semiconductor; PackageTopMarking: NS*UZXYTTE#*LX1622; PowerWise: N; CompType: Interface IC; High-Reliability: Y; DatasheetVersion: Sep-2010; PackageVersion: revB, Mar-2004; PackageReference: SQA40A; PackageDescription: LLP, Plastic, Quad, 6 x 6 x 0.8mm Body, 40 Lead, 0.5mm Pitch, No Pullback; RoHS: Y; PinCount: 40; ComponentLink1Description: Manufacturer URL; ComponentLink1URL: http://www.national.com/; ComponentLink2Description: DS92LX1622 Datasheet; ComponentLink2URL: http://www.national.com/ds/DS/DS92LX1622.pdf; ComponentLink3Description: DS92LX1622 Web Page; ComponentLink3URL: http://www.national.com/pf/DS/DS92LX1622.html; ComponentLink4Description: SQA40A Package Page; ComponentLink4URL: http://www.national.com/packaging/folders/sqa40a.html
footprint SQA40A (QFN, 40-Leads, Body 6x6mm, Pitch 0.5mm, Thermal Pad 4.7x4.7mm, NSC Recommended)
pins: 1 CAD (in), 2 SDA (io), 3 SCL (io), 4 VDDSSCG (power), 5 PCLK (out), 6 VSYNC (out), 7 HSYNC (out), 8 VDDOR3 (power), 9 ROUT[13] (out), 10 ROUT[12] (out), 11 ROUT[11] (out), 12 ROUT[10] (out), 13 VDDD (power), 14 ROUT[9] (out), 15 ROUT[8] (out), 16 VDDOR2 (power), 17 ROUT[7] (out), 18 ROUT[6] (out), 19 ROUT[5] (out), 20 ROUT[4] (out), 21 ROUT[3]/GPIO[5] (io), 22 ROUT[2]/GPIO[4] (io), 23 ROUT[1]/GPIO[3] (io), 24 ROUT[0]/GPIO[2] (io), 25 VDDOR1 (power), 26 GPIO[1] (io), 27 GPIO[0] (io), 28 LOCK (out), 29 PDB (in), 30 VDDR (power), 31 PASS (out), 32 RES, 33 RES, 34 VDDCML (power), 35 RIN+ (io), 36 RIN- (io), 37 BISTEN (in), 38 VDDPLL (power), 39 RES (in), 40 M/S (in), 41 DAP/GND (power)

## DS92LX1622SQE/NOPB
designator U?
10 - 50 MHz DC-Balanced Channel Link III Bi-Directional Control Serializer, 40 pin LLP; PartNumber: DS92LX1622SQE/NOPB; Manufacturer: National Semiconductor; PackageTopMarking: NS*UZXYTTE#*LX1622; PowerWise: N; CompType: Interface IC; High-Reliability: Y; DatasheetVersion: Sep-2010; PackageVersion: revB, Mar-2004; PackageReference: SQA40A; PackageDescription: LLP, Plastic, Quad, 6 x 6 x 0.8mm Body, 40 Lead, 0.5mm Pitch, No Pullback; RoHS: Y; PinCount: 40; ComponentLink1Description: Manufacturer URL; ComponentLink1URL: http://www.national.com/; ComponentLink2Description: DS92LX1622 Datasheet; ComponentLink2URL: http://www.national.com/ds/DS/DS92LX1622.pdf; ComponentLink3Description: DS92LX1622 Web Page; ComponentLink3URL: http://www.national.com/pf/DS/DS92LX1622.html; ComponentLink4Description: SQA40A Package Page; ComponentLink4URL: http://www.national.com/packaging/folders/sqa40a.html
footprint SQA40A (QFN, 40-Leads, Body 6x6mm, Pitch 0.5mm, Thermal Pad 4.7x4.7mm, NSC Recommended)
pins: 1 CAD (in), 2 SDA (io), 3 SCL (io), 4 VDDSSCG (power), 5 PCLK (out), 6 VSYNC (out), 7 HSYNC (out), 8 VDDOR3 (power), 9 ROUT[13] (out), 10 ROUT[12] (out), 11 ROUT[11] (out), 12 ROUT[10] (out), 13 VDDD (power), 14 ROUT[9] (out), 15 ROUT[8] (out), 16 VDDOR2 (power), 17 ROUT[7] (out), 18 ROUT[6] (out), 19 ROUT[5] (out), 20 ROUT[4] (out), 21 ROUT[3]/GPIO[5] (io), 22 ROUT[2]/GPIO[4] (io), 23 ROUT[1]/GPIO[3] (io), 24 ROUT[0]/GPIO[2] (io), 25 VDDOR1 (power), 26 GPIO[1] (io), 27 GPIO[0] (io), 28 LOCK (out), 29 PDB (in), 30 VDDR (power), 31 PASS (out), 32 RES, 33 RES, 34 VDDCML (power), 35 RIN+ (io), 36 RIN- (io), 37 BISTEN (in), 38 VDDPLL (power), 39 RES (in), 40 M/S (in), 41 DAP/GND (power)

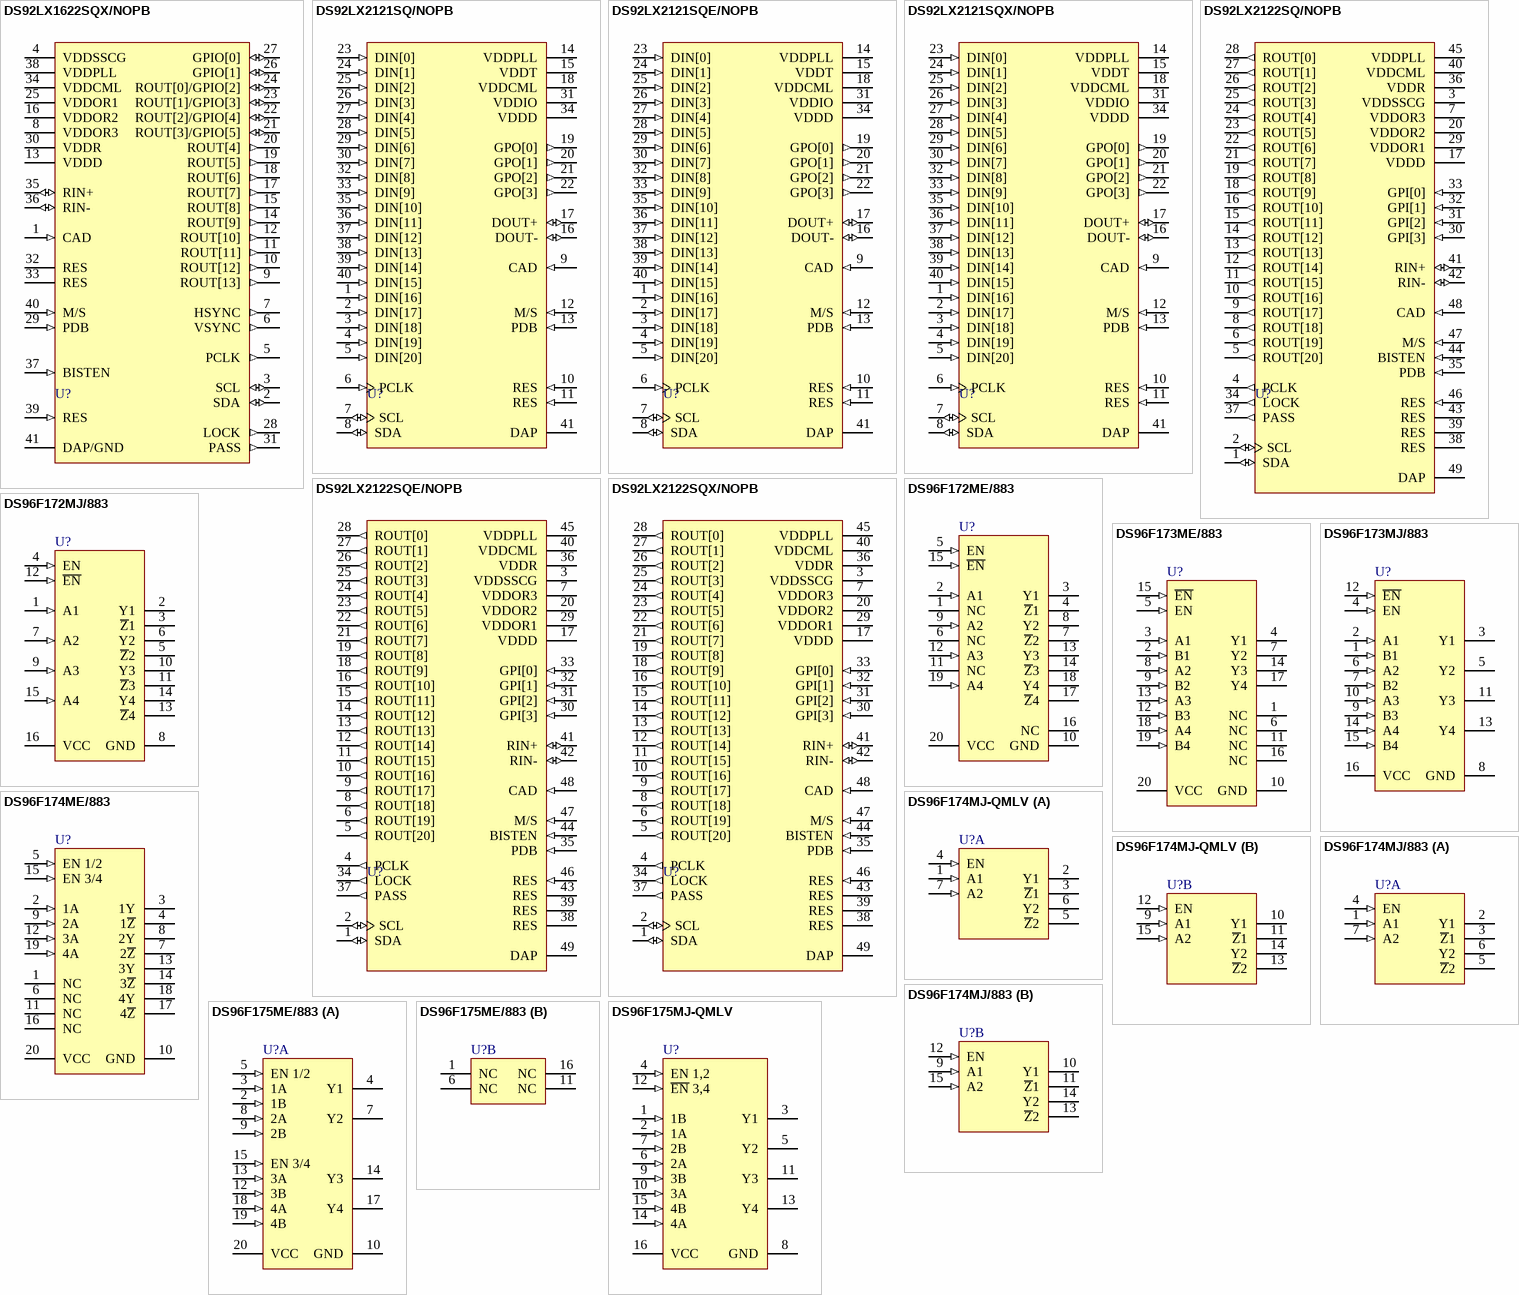
[diagram p75: symbols DS92LX1622SQX/NOPB to DS96F175MJ-QMLV]

## DS92LX1622SQX/NOPB
designator U?
10 - 50 MHz DC-Balanced Channel Link III Bi-Directional Control Serializer, 40 pin LLP; PartNumber: DS92LX1622SQX/NOPB; Manufacturer: National Semiconductor; PackageTopMarking: NS*UZXYTTE#*LX1622; PowerWise: N; CompType: Interface IC; High-Reliability: Y; DatasheetVersion: Sep-2010; PackageVersion: revB, Mar-2004; PackageReference: SQA40A; PackageDescription: LLP, Plastic, Quad, 6 x 6 x 0.8mm Body, 40 Lead, 0.5mm Pitch, No Pullback; RoHS: Y; PinCount: 40; ComponentLink1Description: Manufacturer URL; ComponentLink1URL: http://www.national.com/; ComponentLink2Description: DS92LX1622 Datasheet; ComponentLink2URL: http://www.national.com/ds/DS/DS92LX1622.pdf; ComponentLink3Description: DS92LX1622 Web Page; ComponentLink3URL: http://www.national.com/pf/DS/DS92LX1622.html; ComponentLink4Description: SQA40A Package Page; ComponentLink4URL: http://www.national.com/packaging/folders/sqa40a.html
footprint SQA40A (QFN, 40-Leads, Body 6x6mm, Pitch 0.5mm, Thermal Pad 4.7x4.7mm, NSC Recommended)
pins: 1 CAD (in), 2 SDA (io), 3 SCL (io), 4 VDDSSCG (power), 5 PCLK (out), 6 VSYNC (out), 7 HSYNC (out), 8 VDDOR3 (power), 9 ROUT[13] (out), 10 ROUT[12] (out), 11 ROUT[11] (out), 12 ROUT[10] (out), 13 VDDD (power), 14 ROUT[9] (out), 15 ROUT[8] (out), 16 VDDOR2 (power), 17 ROUT[7] (out), 18 ROUT[6] (out), 19 ROUT[5] (out), 20 ROUT[4] (out), 21 ROUT[3]/GPIO[5] (io), 22 ROUT[2]/GPIO[4] (io), 23 ROUT[1]/GPIO[3] (io), 24 ROUT[0]/GPIO[2] (io), 25 VDDOR1 (power), 26 GPIO[1] (io), 27 GPIO[0] (io), 28 LOCK (out), 29 PDB (in), 30 VDDR (power), 31 PASS (out), 32 RES, 33 RES, 34 VDDCML (power), 35 RIN+ (io), 36 RIN- (io), 37 BISTEN (in), 38 VDDPLL (power), 39 RES (in), 40 M/S (in), 41 DAP/GND (power)

## DS92LX2121SQ/NOPB
designator U?
10 - 50 MHz DC-Balanced Channel Link III Bi-Directional Control Serializer, 40-pin LLP, 1000 Reel; PartNumber: DS92LX2121SQ/NOPB; Manufacturer: National Semiconductor; PackageTopMarking: NS*UZXYTTE#*LX2121; PowerWise: N; CompType: Interface IC; High-Reliability: Y; DatasheetVersion: Jan-2011; PackageVersion: revB, Mar-2004; PackageReference: SQA40A; PackageDescription: LLP, Plastic, Quad, 6 x 6 x 0.8mm Body, 40 Lead, 0.5mm Pitch, No Pullback; RoHS: Y; PinCount: 40; ComponentLink1Description: Manufacturer URL; ComponentLink1URL: http://www.national.com/; ComponentLink2Description: DS92LX2121 Datasheet; ComponentLink2URL: http://www.national.com/ds/DS/DS92LX2121.pdf; ComponentLink3Description: DS92LX2121 Web Page; ComponentLink3URL: http://www.national.com/pf/DS/DS92LX2121.html; ComponentLink4Description: SQA40A Package Page; ComponentLink4URL: http://www.national.com/packaging/folders/sqa40a.html
footprint SQA40A (QFN, 40-Leads, Body 6x6mm, Pitch 0.5mm, Thermal Pad 4.7x4.7mm, NSC Recommended)
pins: 1 DIN[16] (in), 2 DIN[17] (in), 3 DIN[18] (in), 4 DIN[19] (in), 5 DIN[20] (in), 6 PCLK (in), 7 SCL (io), 8 SDA (io), 9 CAD (in), 10 RES (in), 11 RES (in), 12 M/S (in), 13 PDB (in), 14 VDDPLL (power), 15 VDDT (power), 16 DOUT- (io), 17 DOUT+ (io), 18 VDDCML (power), 19 GPO[0] (out), 20 GPO[1] (out), 21 GPO[2] (out), 22 GPO[3] (out), 23 DIN[0] (in), 24 DIN[1] (in), 25 DIN[2] (in), 26 DIN[3] (in), 27 DIN[4] (in), 28 DIN[5] (in), 29 DIN[6] (in), 30 DIN[7] (in), 31 VDDIO (power), 32 DIN[8] (in), 33 DIN[9] (in), 34 VDDD (power), 35 DIN[10] (in), 36 DIN[11] (in), 37 DIN[12] (in), 38 DIN[13] (in), 39 DIN[14] (in), 40 DIN[15] (in), 41 DAP (power)

## DS92LX2121SQE/NOPB
designator U?
10 - 50 MHz DC-Balanced Channel Link III Bi-Directional Control Serializer, 40-pin LLP, 250 Reel; PartNumber: DS92LX2121SQE/NOPB; Manufacturer: National Semiconductor; PackageTopMarking: NS*UZXYTTE#*LX2121; PowerWise: N; CompType: Interface IC; High-Reliability: Y; DatasheetVersion: Jan-2011; PackageVersion: revB, Mar-2004; PackageReference: SQA40A; PackageDescription: LLP, Plastic, Quad, 6 x 6 x 0.8mm Body, 40 Lead, 0.5mm Pitch, No Pullback; RoHS: Y; PinCount: 40; ComponentLink1Description: Manufacturer URL; ComponentLink1URL: http://www.national.com/; ComponentLink2Description: DS92LX2121 Datasheet; ComponentLink2URL: http://www.national.com/ds/DS/DS92LX2121.pdf; ComponentLink3Description: DS92LX2121 Web Page; ComponentLink3URL: http://www.national.com/pf/DS/DS92LX2121.html; ComponentLink4Description: SQA40A Package Page; ComponentLink4URL: http://www.national.com/packaging/folders/sqa40a.html
footprint SQA40A (QFN, 40-Leads, Body 6x6mm, Pitch 0.5mm, Thermal Pad 4.7x4.7mm, NSC Recommended)
pins: 1 DIN[16] (in), 2 DIN[17] (in), 3 DIN[18] (in), 4 DIN[19] (in), 5 DIN[20] (in), 6 PCLK (in), 7 SCL (io), 8 SDA (io), 9 CAD (in), 10 RES (in), 11 RES (in), 12 M/S (in), 13 PDB (in), 14 VDDPLL (power), 15 VDDT (power), 16 DOUT- (io), 17 DOUT+ (io), 18 VDDCML (power), 19 GPO[0] (out), 20 GPO[1] (out), 21 GPO[2] (out), 22 GPO[3] (out), 23 DIN[0] (in), 24 DIN[1] (in), 25 DIN[2] (in), 26 DIN[3] (in), 27 DIN[4] (in), 28 DIN[5] (in), 29 DIN[6] (in), 30 DIN[7] (in), 31 VDDIO (power), 32 DIN[8] (in), 33 DIN[9] (in), 34 VDDD (power), 35 DIN[10] (in), 36 DIN[11] (in), 37 DIN[12] (in), 38 DIN[13] (in), 39 DIN[14] (in), 40 DIN[15] (in), 41 DAP (power)

## DS92LX2121SQX/NOPB
designator U?
10 - 50 MHz DC-Balanced Channel Link III Bi-Directional Control Serializer, 40-pin LLP, 2500 Reel; PartNumber: DS92LX2121SQX/NOPB; Manufacturer: National Semiconductor; PackageTopMarking: NS*UZXYTTE#*LX2121; PowerWise: N; CompType: Interface IC; High-Reliability: Y; DatasheetVersion: Jan-2011; PackageVersion: revB, Mar-2004; PackageReference: SQA40A; PackageDescription: LLP, Plastic, Quad, 6 x 6 x 0.8mm Body, 40 Lead, 0.5mm Pitch, No Pullback; RoHS: Y; PinCount: 40; ComponentLink1Description: Manufacturer URL; ComponentLink1URL: http://www.national.com/; ComponentLink2Description: DS92LX2121 Datasheet; ComponentLink2URL: http://www.national.com/ds/DS/DS92LX2121.pdf; ComponentLink3Description: DS92LX2121 Web Page; ComponentLink3URL: http://www.national.com/pf/DS/DS92LX2121.html; ComponentLink4Description: SQA40A Package Page; ComponentLink4URL: http://www.national.com/packaging/folders/sqa40a.html
footprint SQA40A (QFN, 40-Leads, Body 6x6mm, Pitch 0.5mm, Thermal Pad 4.7x4.7mm, NSC Recommended)
pins: 1 DIN[16] (in), 2 DIN[17] (in), 3 DIN[18] (in), 4 DIN[19] (in), 5 DIN[20] (in), 6 PCLK (in), 7 SCL (io), 8 SDA (io), 9 CAD (in), 10 RES (in), 11 RES (in), 12 M/S (in), 13 PDB (in), 14 VDDPLL (power), 15 VDDT (power), 16 DOUT- (io), 17 DOUT+ (io), 18 VDDCML (power), 19 GPO[0] (out), 20 GPO[1] (out), 21 GPO[2] (out), 22 GPO[3] (out), 23 DIN[0] (in), 24 DIN[1] (in), 25 DIN[2] (in), 26 DIN[3] (in), 27 DIN[4] (in), 28 DIN[5] (in), 29 DIN[6] (in), 30 DIN[7] (in), 31 VDDIO (power), 32 DIN[8] (in), 33 DIN[9] (in), 34 VDDD (power), 35 DIN[10] (in), 36 DIN[11] (in), 37 DIN[12] (in), 38 DIN[13] (in), 39 DIN[14] (in), 40 DIN[15] (in), 41 DAP (power)

## DS92LX2122SQ/NOPB
designator U?
10 - 50 MHz DC-Balanced Channel Link III Bi-Directional Control Deserializer, 48-pin LLP, 2500 Reel; PartNumber: DS92LX2122SQ/NOPB; Manufacturer: National Semiconductor; PackageTopMarking: NS*UZXYTTE#*LX2122; PowerWise: N; CompType: Interface IC; High-Reliability: Y; DatasheetVersion: Jul-2011; PackageVersion: revB, May-2009; PackageReference: SQA48A; PackageDescription: LLP, Plastic, Quad, 7 x 7 x 0.8mm Body, 48 Lead, 0.5mm Pitch, No Pullback; RoHS: Y; PinCount: 48; Code_JEDEC: MO-220-WKKD-2; ComponentLink1Description: Manufacturer URL; ComponentLink1URL: http://www.national.com/; ComponentLink2Description: DS92LX2122 Datasheet; ComponentLink2URL: http://www.national.com/ds/DS/DS92LX2122.pdf; ComponentLink3Description: DS92LX2122 Web Page; ComponentLink3URL: http://www.national.com/pf/DS/DS92LX2122.html; ComponentLink4Description: SQA48A Package Page; ComponentLink4URL: http://www.national.com/packaging/folders/sqa48a.html
footprint SQA48A (QFN, 48-Leads, Body 7x7mm, Pitch 0.5mm, Thermal Pad 5.2x5.2mm, NSC Recommended)
pins: 1 SDA (io), 2 SCL (io), 3 VDDSSCG (power), 4 PCLK (out), 5 ROUT[20] (out), 6 ROUT[19] (out), 7 VDDOR3 (power), 8 ROUT[18] (out), 9 ROUT[17] (out), 10 ROUT[16] (out), 11 ROUT[15] (out), 12 ROUT[14] (out), 13 ROUT[13] (out), 14 ROUT[12] (out), 15 ROUT[11] (out), 16 ROUT[10] (out), 17 VDDD (power), 18 ROUT[9] (out), 19 ROUT[8] (out), 20 VDDOR2 (power), 21 ROUT[7] (out), 22 ROUT[6] (out), 23 ROUT[5] (out), 24 ROUT[4] (out), 25 ROUT[3] (out), 26 ROUT[2] (out), 27 ROUT[1] (out), 28 ROUT[0] (out), 29 VDDOR1 (power), 30 GPI[3] (in), 31 GPI[2] (in), 32 GPI[1] (in), 33 GPI[0] (in), 34 LOCK (out), 35 PDB (in), 36 VDDR (power), 37 PASS (out), 38 RES, 39 RES, 40 VDDCML (power), 41 RIN+ (io), 42 RIN- (io), 43 RES, 44 BISTEN (in), 45 VDDPLL (power), 46 RES (in), 47 M/S (in), 48 CAD (in), 49 DAP (power)

## DS92LX2122SQE/NOPB
designator U?
10 - 50 MHz DC-Balanced Channel Link III Bi-Directional Control Deserializer, 48-pin LLP, 250 Reel; PartNumber: DS92LX2122SQE/NOPB; Manufacturer: National Semiconductor; PackageTopMarking: NS*UZXYTTE#*LX2122; PowerWise: N; CompType: Interface IC; High-Reliability: Y; DatasheetVersion: Jul-2011; PackageVersion: revB, May-2009; PackageReference: SQA48A; PackageDescription: LLP, Plastic, Quad, 7 x 7 x 0.8mm Body, 48 Lead, 0.5mm Pitch, No Pullback; RoHS: Y; PinCount: 48; Code_JEDEC: MO-220-WKKD-2; ComponentLink1Description: Manufacturer URL; ComponentLink1URL: http://www.national.com/; ComponentLink2Description: DS92LX2122 Datasheet; ComponentLink2URL: http://www.national.com/ds/DS/DS92LX2122.pdf; ComponentLink3Description: DS92LX2122 Web Page; ComponentLink3URL: http://www.national.com/pf/DS/DS92LX2122.html; ComponentLink4Description: SQA48A Package Page; ComponentLink4URL: http://www.national.com/packaging/folders/sqa48a.html
footprint SQA48A (QFN, 48-Leads, Body 7x7mm, Pitch 0.5mm, Thermal Pad 5.2x5.2mm, NSC Recommended)
pins: 1 SDA (io), 2 SCL (io), 3 VDDSSCG (power), 4 PCLK (out), 5 ROUT[20] (out), 6 ROUT[19] (out), 7 VDDOR3 (power), 8 ROUT[18] (out), 9 ROUT[17] (out), 10 ROUT[16] (out), 11 ROUT[15] (out), 12 ROUT[14] (out), 13 ROUT[13] (out), 14 ROUT[12] (out), 15 ROUT[11] (out), 16 ROUT[10] (out), 17 VDDD (power), 18 ROUT[9] (out), 19 ROUT[8] (out), 20 VDDOR2 (power), 21 ROUT[7] (out), 22 ROUT[6] (out), 23 ROUT[5] (out), 24 ROUT[4] (out), 25 ROUT[3] (out), 26 ROUT[2] (out), 27 ROUT[1] (out), 28 ROUT[0] (out), 29 VDDOR1 (power), 30 GPI[3] (in), 31 GPI[2] (in), 32 GPI[1] (in), 33 GPI[0] (in), 34 LOCK (out), 35 PDB (in), 36 VDDR (power), 37 PASS (out), 38 RES, 39 RES, 40 VDDCML (power), 41 RIN+ (io), 42 RIN- (io), 43 RES, 44 BISTEN (in), 45 VDDPLL (power), 46 RES (in), 47 M/S (in), 48 CAD (in), 49 DAP (power)

## DS92LX2122SQX/NOPB
designator U?
10 - 50 MHz DC-Balanced Channel Link III Bi-Directional Control Deserializer, 48-pin LLP, 2500 Reel; PartNumber: DS92LX2122SQX/NOPB; Manufacturer: National Semiconductor; PackageTopMarking: NS*UZXYTTE#*LX2122; PowerWise: N; CompType: Interface IC; High-Reliability: Y; DatasheetVersion: Jul-2011; PackageVersion: revB, May-2009; PackageReference: SQA48A; PackageDescription: LLP, Plastic, Quad, 7 x 7 x 0.8mm Body, 48 Lead, 0.5mm Pitch, No Pullback; RoHS: Y; PinCount: 48; Code_JEDEC: MO-220-WKKD-2; ComponentLink1Description: Manufacturer URL; ComponentLink1URL: http://www.national.com/; ComponentLink2Description: DS92LX2122 Datasheet; ComponentLink2URL: http://www.national.com/ds/DS/DS92LX2122.pdf; ComponentLink3Description: DS92LX2122 Web Page; ComponentLink3URL: http://www.national.com/pf/DS/DS92LX2122.html; ComponentLink4Description: SQA48A Package Page; ComponentLink4URL: http://www.national.com/packaging/folders/sqa48a.html
footprint SQA48A (QFN, 48-Leads, Body 7x7mm, Pitch 0.5mm, Thermal Pad 5.2x5.2mm, NSC Recommended)
pins: 1 SDA (io), 2 SCL (io), 3 VDDSSCG (power), 4 PCLK (out), 5 ROUT[20] (out), 6 ROUT[19] (out), 7 VDDOR3 (power), 8 ROUT[18] (out), 9 ROUT[17] (out), 10 ROUT[16] (out), 11 ROUT[15] (out), 12 ROUT[14] (out), 13 ROUT[13] (out), 14 ROUT[12] (out), 15 ROUT[11] (out), 16 ROUT[10] (out), 17 VDDD (power), 18 ROUT[9] (out), 19 ROUT[8] (out), 20 VDDOR2 (power), 21 ROUT[7] (out), 22 ROUT[6] (out), 23 ROUT[5] (out), 24 ROUT[4] (out), 25 ROUT[3] (out), 26 ROUT[2] (out), 27 ROUT[1] (out), 28 ROUT[0] (out), 29 VDDOR1 (power), 30 GPI[3] (in), 31 GPI[2] (in), 32 GPI[1] (in), 33 GPI[0] (in), 34 LOCK (out), 35 PDB (in), 36 VDDR (power), 37 PASS (out), 38 RES, 39 RES, 40 VDDCML (power), 41 RIN+ (io), 42 RIN- (io), 43 RES, 44 BISTEN (in), 45 VDDPLL (power), 46 RES (in), 47 M/S (in), 48 CAD (in), 49 DAP (power)

## DS96F172ME/883
designator U?
EIA-485/EIA-422 Quad Differential Driver, 20-pin LCC; PartNumber: DS96F172ME/883; Manufacturer: National Semiconductor; PackageTopMarking: NS*ZSSXXYYA*DS96F172ME*/883 Q 5962-*9076501M2A; PowerWise: N; CompType: Interface IC; High-Reliability: Y; DatasheetVersion: Apr-2011; PackageVersion: revF, May-2004; PackageReference: E20A; PackageDescription: Leadless Chip Carrier, Type C, 20 Terminal; RoHS: N; PinCount: 20; Code_JEDEC: MS-004-CB; ComponentLink1Description: Manufacturer URL; ComponentLink1URL: http://www.national.com/; ComponentLink2Description: DS96F172M Datasheet; ComponentLink2URL: http://www.national.com/ds/DS/DS96F172MQML.pdf; ComponentLink3Description: DS96F172M Web Page; ComponentLink3URL: http://www.national.com/pf/DS/DS96F172M.html; ComponentLink4Description: E20A Package Page; ComponentLink4URL: http://www.national.com/packaging/folders/e20a.html
footprint E20A_N (Leadless Chip Carrier, 20-Leads, Body 8.9x8.9mm, Pitch 1.27mm, IPC Medium Density)
footprint E20A_L (Leadless Chip Carrier, 20-Leads, Body 8.9x8.9mm, Pitch 1.27mm, IPC High Density)
footprint E20A_M (Leadless Chip Carrier, 20-Leads, Body 8.9x8.9mm, Pitch 1.27mm, IPC Low Density)
pins: 1 NC, 2 A1 (in), 3 Y1 (hiz), 4 ~{Z}1 (hiz), 5 EN (in), 6 NC, 7 ~{Z}2 (hiz), 8 Y2 (hiz), 9 A2 (in), 10 GND (power), 11 NC, 12 A3 (in), 13 Y3 (hiz), 14 ~{Z}3 (hiz), 15 ~{EN} (in), 16 NC, 17 ~{Z}4 (hiz), 18 Y4 (hiz), 19 A4 (in), 20 VCC (power)

## DS96F172MJ/883
designator U?
EIA-485/EIA-422 Quad Differential Driver, 16-pin CerDIP; PartNumber: DS96F172MJ/883; Manufacturer: National Semiconductor; PackageTopMarking: NSZSSXXYYA*DS96F172MJ/883 Q*5962-9076501MEA; PowerWise: N; CompType: Interface IC; High-Reliability: Y; DatasheetVersion: Apr-2011; PackageVersion: revL, Sep-1993; PackageReference: J16A; PackageDescription: Cerdip (J), 16 Lead; RoHS: N; PinCount: 16; ComponentLink1Description: Manufacturer URL; ComponentLink1URL: http://www.national.com/; ComponentLink2Description: DS96F172M Datasheet; ComponentLink2URL: http://www.national.com/ds/DS/DS96F172MQML.pdf; ComponentLink3Description: DS96F172M Web Page; ComponentLink3URL: http://www.national.com/pf/DS/DS96F172M.html; ComponentLink4Description: J16A Package Page; ComponentLink4URL: http://www.national.com/packaging/folders/j16a.html
footprint J16A (DIP, 16-Leads, Row Spacing 7.62mm, Pitch 2.54mm, Body 19.56x6.73mm)
pins: 1 A1 (in), 2 Y1 (hiz), 3 ~{Z}1 (hiz), 4 EN (in), 5 ~{Z}2 (hiz), 6 Y2 (hiz), 7 A2 (in), 8 GND (power), 9 A3 (in), 10 Y3 (hiz), 11 ~{Z}3 (hiz), 12 ~{EN} (in), 13 ~{Z}4 (hiz), 14 Y4 (hiz), 15 A4 (in), 16 VCC (power)

## DS96F173ME/883
designator U?
EIA-485/EIA-422 Quad Differential Receiver, 20-pin LCC; PartNumber: DS96F173ME/883; Manufacturer: National Semiconductor; PackageTopMarking: NS*ZSSXXYYA*DS96F173ME*/883 Q 5962-*9076602M2A; PowerWise: N; CompType: Interface IC; High-Reliability: Y; DatasheetVersion: Apr-2011; PackageVersion: revF, May-2004; PackageReference: E20A; PackageDescription: Leadless Chip Carrier, Type C, 20 Terminal; RoHS: N; PinCount: 20; Code_JEDEC: MS-004-CB; ComponentLink1Description: Manufacturer URL; ComponentLink1URL: http://www.national.com/; ComponentLink2Description: DS96F173M Datasheet; ComponentLink2URL: http://www.national.com/ds/DS/DS96F173MQML.pdf; ComponentLink3Description: DS96F173M Web Page; ComponentLink3URL: http://www.national.com/pf/DS/DS96F173M.html; ComponentLink4Description: E20A Package Page; ComponentLink4URL: http://www.national.com/packaging/folders/e20a.html
footprint E20A_N (Leadless Chip Carrier, 20-Leads, Body 8.9x8.9mm, Pitch 1.27mm, IPC Medium Density)
footprint E20A_L (Leadless Chip Carrier, 20-Leads, Body 8.9x8.9mm, Pitch 1.27mm, IPC High Density)
footprint E20A_M (Leadless Chip Carrier, 20-Leads, Body 8.9x8.9mm, Pitch 1.27mm, IPC Low Density)
pins: 1 NC, 2 B1 (in), 3 A1 (in), 4 Y1 (hiz), 5 EN (in), 6 NC, 7 Y2 (hiz), 8 A2 (in), 9 B2 (in), 10 GND (power), 11 NC, 12 B3 (in), 13 A3 (in), 14 Y3 (hiz), 15 ~{EN} (in), 16 NC, 17 Y4 (hiz), 18 A4 (in), 19 B4 (in), 20 VCC (power)

## DS96F173MJ/883
designator U?
EIA-485/EIA-422 Quad Differential Receiver, 16-pin CerDIP; PartNumber: DS96F173MJ/883; Manufacturer: National Semiconductor; PackageTopMarking: NSZSSXXYYA*DS96F173MJ/883 Q*5962-9076602MEA; PowerWise: N; CompType: Interface IC; High-Reliability: Y; DatasheetVersion: Apr-2011; PackageVersion: revL, Sep-1993; PackageReference: J16A; PackageDescription: Cerdip (J), 16 Lead; RoHS: N; PinCount: 16; ComponentLink1Description: Manufacturer URL; ComponentLink1URL: http://www.national.com/; ComponentLink2Description: DS96F173M Datasheet; ComponentLink2URL: http://www.national.com/ds/DS/DS96F173MQML.pdf; ComponentLink3Description: DS96F173M Web Page; ComponentLink3URL: http://www.national.com/pf/DS/DS96F173M.html; ComponentLink4Description: J16A Package Page; ComponentLink4URL: http://www.national.com/packaging/folders/j16a.html
footprint J16A (DIP, 16-Leads, Row Spacing 7.62mm, Pitch 2.54mm, Body 19.56x6.73mm)
pins: 1 B1 (in), 2 A1 (in), 3 Y1 (hiz), 4 EN (in), 5 Y2 (hiz), 6 A2 (in), 7 B2 (in), 8 GND (power), 9 B3 (in), 10 A3 (in), 11 Y3 (hiz), 12 ~{EN} (in), 13 Y4 (hiz), 14 A4 (in), 15 B4 (in), 16 VCC (power)

## DS96F174ME/883
designator U?
EIA-485/EIA-422 Quad Differential Driver, 20-pin LCC; PartNumber: DS96F174ME/883; Manufacturer: National Semiconductor; PackageTopMarking: NSZSSXXYYA*DS96F174ME*/883 Q*5962-*9076502M2A; PowerWise: N; CompType: Interface IC; High-Reliability: Y; DatasheetVersion: Apr-2011; PackageVersion: revF, May-2004; PackageReference: E20A; PackageDescription: Leadless Chip Carrier, Type C, 20 Terminal; RoHS: N; PinCount: 20; Code_JEDEC: MS-004-CB; ComponentLink1Description: Manufacturer URL; ComponentLink1URL: http://www.national.com/; ComponentLink2Description: DS96F174M Datasheet; ComponentLink2URL: http://www.national.com/ds/DS/DS96F174MQML.pdf; ComponentLink3Description: DS96F174M Web Page; ComponentLink3URL: http://www.national.com/pf/DS/DS96F174M.html; ComponentLink4Description: E20A Package Page; ComponentLink4URL: http://www.national.com/packaging/folders/e20a.html
footprint E20A_N (Leadless Chip Carrier, 20-Leads, Body 8.9x8.9mm, Pitch 1.27mm, IPC Medium Density)
footprint E20A_L (Leadless Chip Carrier, 20-Leads, Body 8.9x8.9mm, Pitch 1.27mm, IPC High Density)
footprint E20A_M (Leadless Chip Carrier, 20-Leads, Body 8.9x8.9mm, Pitch 1.27mm, IPC Low Density)
pins: 1 NC, 2 1A (in), 3 1Y (hiz), 4 1~{Z} (hiz), 5 EN 1/2 (in), 6 NC, 7 2~{Z} (hiz), 8 2Y (hiz), 9 2A (in), 10 GND (power), 11 NC, 12 3A (in), 13 3Y (hiz), 14 3~{Z} (hiz), 15 EN 3/4 (in), 16 NC, 17 4~{Z} (hiz), 18 4Y (hiz), 19 4A (in), 20 VCC (power)